# EAGLE library part ESP-WROOM-02 (library pixel)
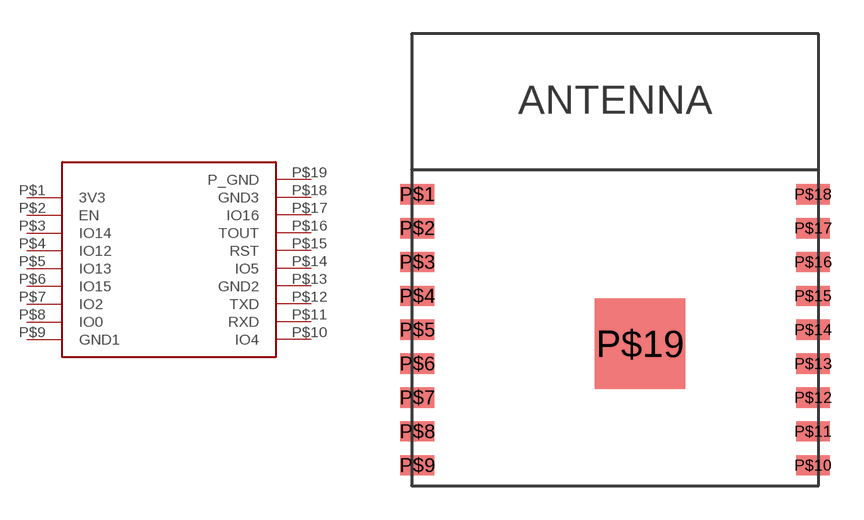
[diagram p24: symbol with the pads of ESP-WROOM-02; footprint ESP-WROOM-02]

Designator prefix -

## ESP-WROOM-02  [ESP-WROOM-02]
P$1  3V3
P$2  EN
P$3  IO14
P$4  IO12
P$5  IO13
P$6  IO15
P$7  IO2
P$8  IO0
P$9  GND1
P$10  IO4
P$11  RXD
P$12  TXD
P$13  GND2
P$14  IO5
P$15  RST
P$16  TOUT
P$17  IO16
P$18  GND3
P$19  P_GND

## Footprint ESP-WROOM-02 (pad centres in mm)
smd 1.5 x 0.9: P$1 -8.75,0; P$2 -8.75,-1.5; P$3 -8.75,-3; P$4 -8.75,-4.5; P$5 -8.75,-6; P$6 -8.75,-7.5; P$7 -8.75,-9; P$8 -8.75,-10.5; P$9 -8.75,-12; P$10 8.75,-12; P$11 8.75,-10.5; P$12 8.75,-9; P$13 8.75,-7.5; P$14 8.75,-6; P$15 8.75,-4.5; P$16 8.75,-3; P$17 8.75,-1.5; P$18 8.75,0
smd 4 x 4: P$19 1.1,-6.61